# Altium schematic symbol library ic_io_interface.SchLib: 5 symbols
Pins are listed as number, name and electrical type; pins without a type are passive.

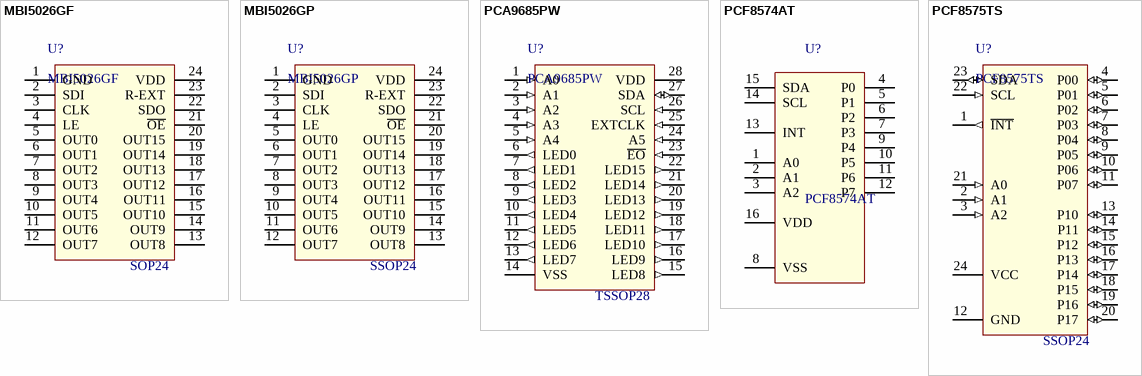
[diagram p0: symbols MBI5026GF to PCF8575TS]

## MBI5026GF
designator U?  PACKAGE: SOP24
16-bit Constant Current LED Sink Driver; BRAND: Macroblock; PART NO: MBI5026GF; TYPE: SMD
footprint SOP24/MBI5026GF
pins: 1 GND "Ground terminal for control logic and current sink", 2 SDI "Serial-data input to the shift register", 3 CLK "Clock input terminal for data shift on rising edge", 4 LE "Data strobe input terminal", 5 OUT0 "Constant current output terminals", 6 OUT1 "Constant current output terminals", 7 OUT2 "Constant current output terminals", 8 OUT3 "Constant current output terminals", 9 OUT4 "Constant current output terminals", 10 OUT5 "Constant current output terminals", 11 OUT6 "Constant current output terminals", 12 OUT7 "Constant current output terminals", 13 OUT8 "Constant current output terminals", 14 OUT9 "Constant current output terminals", 15 OUT10 "Constant current output terminals", 16 OUT11 "Constant current output terminals", 17 OUT12 "Constant current output terminals", 18 OUT13 "Constant current output terminals", 19 OUT14 "Constant current output terminals", 20 OUT15 "Constant current output terminals", 21 ~{OE} "Output enable terminal", 22 SDO "Serial-data output to the following SDI of next driver IC", 23 R-EXT "Input terminal used to connect an external resistor for setting up output current for all output channels", 24 VDD "5V supply voltage terminal"

## MBI5026GP
designator U?  PACKAGE: SSOP24
16-bit Constant Current LED Sink Driver; PART NO: MBI5026GF; BRAND: Macroblock; TYPE: SMD
footprint SSOP24/MBI5026GP
pins: 1 GND "Ground terminal for control logic and current sink", 2 SDI "Serial-data input to the shift register", 3 CLK "Clock input terminal for data shift on rising edge", 4 LE "Data strobe input terminal", 5 OUT0 "Constant current output terminals", 6 OUT1 "Constant current output terminals", 7 OUT2 "Constant current output terminals", 8 OUT3 "Constant current output terminals", 9 OUT4 "Constant current output terminals", 10 OUT5 "Constant current output terminals", 11 OUT6 "Constant current output terminals", 12 OUT7 "Constant current output terminals", 13 OUT8 "Constant current output terminals", 14 OUT9 "Constant current output terminals", 15 OUT10 "Constant current output terminals", 16 OUT11 "Constant current output terminals", 17 OUT12 "Constant current output terminals", 18 OUT13 "Constant current output terminals", 19 OUT14 "Constant current output terminals", 20 OUT15 "Constant current output terminals", 21 ~{OE} "Output enable terminal", 22 SDO "Serial-data output to the following SDI of next driver IC", 23 R-EXT "Input terminal used to connect an external resistor for setting up output current for all output channels", 24 VDD "5V supply voltage terminal"

## PCA9685PW
designator U?  PACKAGE: TSSOP28
16-channel, 12-bit PWM Fm+ I2C-bus LED controller; BRAND: NXP; PART NO: PCA9685PW; TYPE: SMD
footprint TSSOP28/PCA9685PW
pins: 1 A0 (in) "address input 0", 2 A1 (in) "address input 1", 3 A2 (in) "address input 2", 4 A3 (in) "address input 3", 5 A4 (in) "address input 4", 6 LED0 (out) "LED driver 0", 7 LED1 (out) "LED driver 1", 8 LED2 (out) "LED driver 2", 9 LED3 (out) "LED driver 3", 10 LED4 (out) "LED driver 4", 11 LED5 (out) "LED driver 5", 12 LED6 (out) "LED driver 6", 13 LED7 (out) "LED driver 7", 14 VSS (power) "supply ground", 15 LED8 (out) "LED driver 8", 16 LED9 (out) "LED driver 9", 17 LED10 (out) "LED driver 10", 18 LED11 (out) "LED driver 11", 19 LED12 (out) "LED driver 12", 20 LED13 (out) "LED driver 13", 21 LED14 (out) "LED driver 14", 22 LED15 (out) "LED driver 15", 23 ~{EO} (in) "active LOW output enable", 24 A5 (in) "address input 5", 25 EXTCLK (in) "external clock input", 26 SCL (in) "serial clock line", 27 SDA (io) "serial data line", 28 VDD (power) "supply voltage"

## PCF8574AT
designator U?
Remote 8-bit I/O expander for I2C-bus with interrupt; PART NO: PCF8574AT/3; BRAND: NXP; PACKAGE: SO16; TYPE: SMD
footprint SO16/PCF8574AT
pins: 1 A0, 2 A1, 3 A2, 4 P0, 5 P1, 6 P2, 7 P3, 8 VSS, 9 P4, 10 P5, 11 P6, 12 P7, 13 INT, 14 SCL, 15 SDA, 16 VDD

## PCF8575TS
designator U?  PACKAGE: SSOP24
PCF8575 Remote16-BIT I  2C AND SMBus I/O Expander  with Interrupt Output; BRAND: NXP; PART NO: PCF8575TS; TYPE: SMD
footprint SSOP24/PCF8575TS
pins: 1 ~{INT} (out) "Interrupt output. Connect to VCC through a pull-up resistor", 2 A1 (in) "Address input 1. Connect directly to VCC or ground. Pull-up resistors are not", 3 A2 (in) "Address input 2. Connect directly to VCC or ground. Pull-up resistors are not", 4 P00 (io) "P-port input/output. Push-pull design structure", 5 P01 (io) "P-port input/output. Push-pull design structure", 6 P02 (io) "P-port input/output. Push-pull design structure", 7 P03 (io) "P-port input/output. Push-pull design structure", 8 P04 (io) "P-port input/output. Push-pull design structure", 9 P05 (io) "P-port input/output. Push-pull design structure", 10 P06 (io) "P-port input/output. Push-pull design structure", 11 P07 (io) "P-port input/output. Push-pull design structure", 12 GND (power) "Ground", 13 P10 (io) "P-port input/output. Push-pull design structure", 14 P11 (io) "P-port input/output. Push-pull design structure", 15 P12 (io) "P-port input/output. Push-pull design structure", 16 P13 (io) "P-port input/output. Push-pull design structure", 17 P14 (io) "P-port input/output. Push-pull design structure", 18 P15 (io) "P-port input/output. Push-pull design structure", 19 P16 (io) "P-port input/output. Push-pull design structure", 20 P17 (io) "P-port input/output. Push-pull design structure", 21 A0 (in) "Address input 0. Connect directly to VCC or ground. Pull-up resistors are not", 22 SCL (in) "Serial clock line. Connect to VCC through a pull-up resistor", 23 SDA (io) "Serial data line. Connect to VCC through a pull-up resistor.", 24 VCC (power) "Supply voltage"